# Altium schematic symbol library NAPaC_DevKitC_SchLib.SchLib: 1 symbol
Pins are listed as number, name and electrical type; pins without a type are passive.

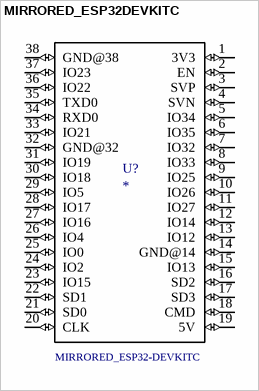
[diagram p0: symbol MIRRORED_ESP32DEVKITC]

## MIRRORED_ESP32DEVKITC
designator U?
pins: 1 3V3 (io), 2 EN (io), 3 SVP (io), 4 SVN (io), 5 IO34 (io), 6 IO35 (io), 7 IO32 (io), 8 IO33 (io), 9 IO25 (io), 10 IO26 (io), 11 IO27 (io), 12 IO14 (io), 13 IO12 (io), 14 GND@14 (io), 15 IO13 (io), 16 SD2 (io), 17 SD3 (io), 18 CMD (io), 19 5V (io), 20 CLK (io), 21 SD0 (io), 22 SD1 (io), 23 IO15 (io), 24 IO2 (io), 25 IO0 (io), 26 IO4 (io), 27 IO16 (io), 28 IO17 (io), 29 IO5 (io), 30 IO18 (io), 31 IO19 (io), 32 GND@32 (io), 33 IO21 (io), 34 RXD0 (io), 35 TXD0 (io), 36 IO22 (io), 37 IO23 (io), 38 GND@38 (io)
text: MIRRORED_ESP32-DEVKITC